# Altium footprint library Sensirion.PcbLib: 1 footprints
Each footprint in its own frame and in the unit in brackets; x right, y up, seen from the top. Pads: shape width x height; smd on the part's side, far side on the other; paste and mask are expansions set on the pad; w line width, h text height; cw(c..) or ccw(c..) is an arc to the next point about the centre after c.
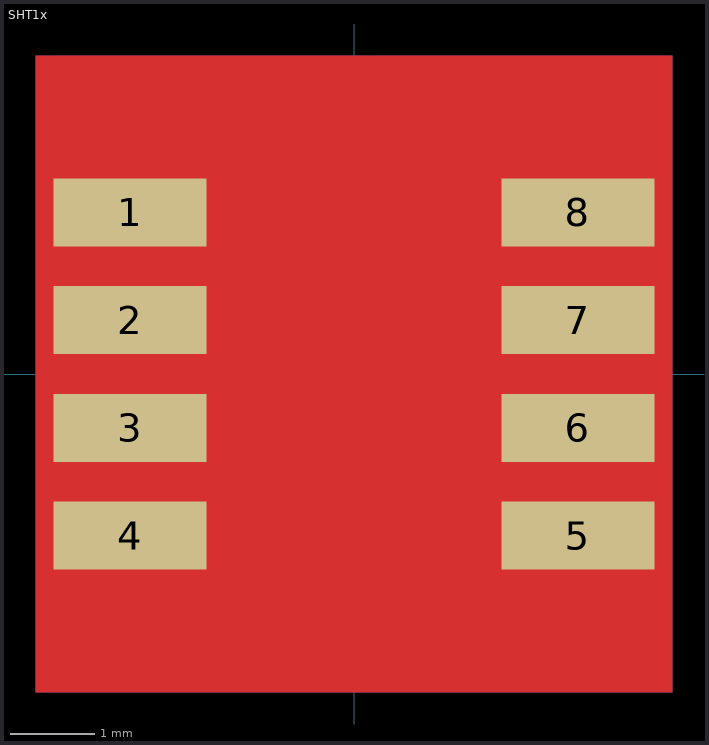
[diagram p0: the footprint, top view; thin cyan lines are the x and y axes]

## SHT1x [mm]
pads (8):
  rect 1.8x0.8 smd: 1(-2.64,1.905) 2(-2.64,0.635) 3(-2.64,-0.635) 4(-2.64,-1.905) 5(2.64,-1.905) 6(2.64,-0.635) 7(2.64,0.635) 8(2.64,1.905)
Top Layer:
  pour cut-out: -3.75,3.75 3.75,3.75 3.75,-3.75 -3.75,-3.75
Bottom Layer:
  pour cut-out: -3.75,3.75 3.75,3.75 3.75,-3.75 -3.75,-3.75
3D body: height 2.5, standoff 0, extent -2.5,-3.75 2.5,3.75